# Altium footprint library AIWAC-TF_CARD-V02.PcbLib: 9 footprints
Each footprint in its own frame and in the unit in brackets; x right, y up, seen from the top. Pads: shape width x height; smd on the part's side, far side on the other; paste and mask are expansions set on the pad; w line width, h text height; cw(c..) or ccw(c..) is an arc to the next point about the centre after c.
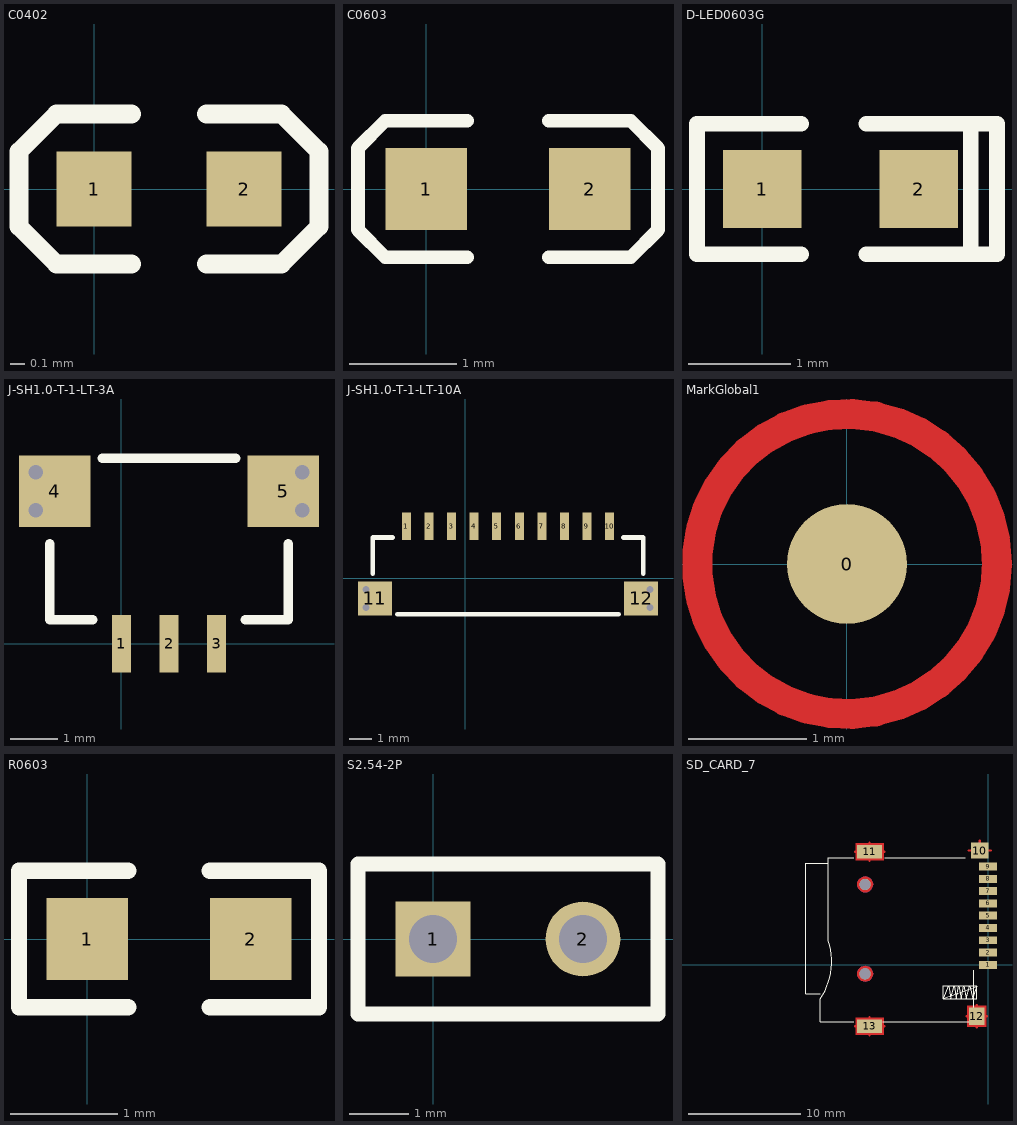
[diagram p0: the footprints below, top view; thin cyan lines are the x and y axes]

## C0402 [mil]
height 10
pads (2):
  rect 20x20 smd: 1(0,0) 2(40,0)
Top Overlay:
  lines w5: 10,-20 -10,-20 -20,-10 -20,10 -10,20 10,20 ; 30,-20 50,-20 60,-10 60,-5 60,10 50,20 30,20
3D body "C0402.STEP": height 19.84, standoff 0.16, extent 0.32,-10 39.69,10.08

## C0603 [mil]
height 12
pads (2):
  rect 30x30 smd: 1(0,0) 2(60,0)
Top Overlay:
  lines w5: 15,-25 -15,-25 -25,-15 -25,15 -15,25 15,25 ; 45,-25 75,-25 85,-15 85,15 75,25 45,25
3D body "C0603.STEP": height 11.89, standoff 0, extent -1.5,-15.5 61.5,16

## D-LED0603G [mil]
height 39.37
pads (2):
  rect 30x30 smd: 1(0,0) 2(60,0)
Top Overlay:
  lines w6: 15,-25 -25,-25 -25,25 15,25 ; 40,-25 90,-25 90,25 40,25 ; 80,-25 80,25
3D body "LED_0603_GREEN.STEP": height 23.62, standoff 0, extent -1.89,-16.5 61.89,15

## J-SH1.0-T-1-LT-3A [mm]
pads (5):
  rect 0.4x1.2 smd: 1(0,0) 2(1,0) 3(2,0)
  rect 1.5x1.5 smd: 4(-1.4,3.2) 5(3.4,3.2)
via 3.8,2.8 diameter 0.508 hole 0.305
via 3.8,3.6 diameter 0.508 hole 0.305
via -1.8,2.8 diameter 0.508 hole 0.305
via -1.8,3.6 diameter 0.508 hole 0.305
Top Overlay:
  lines w0.2: -1.5,2.1 -1.5,0.5 -0.6,0.5 ; -0.4,3.9 2.4,3.9 ; 2.6,0.5 3.5,0.5 3.5,2.1

## J-SH1.0-T-1-LT-10A [mm] "接插件SH1.0-T-1-LT-10A，A33TF卡槽"
pads (12):
  rect 0.4x1.2 smd: 1(-2.6,2.3) 2(-1.6,2.3) 3(-0.6,2.3) 4(0.4,2.3) 5(1.4,2.3) 6(2.4,2.3) 7(3.4,2.3) 8(4.4,2.3) 9(5.4,2.3) 10(6.4,2.3)
  rect 1.5x1.5 smd: 11(-4,-0.9) 12(7.8,-0.9)
via -4.4,-1.3 diameter 0.508 hole 0.305
via -4.4,-0.5 diameter 0.508 hole 0.305
via 8.2,-0.5 diameter 0.508 hole 0.305
via 8.2,-1.3 diameter 0.508 hole 0.305
Top Overlay:
  lines w0.2: -4.1,0.2 -4.1,1.8 -3.2,1.8 ; -3,-1.6 6.8,-1.6 ; 7,1.8 7.9,1.8 7.9,0.2

## MarkGlobal1 [mil]
height 39.37
pads (1):
  round 40 smd: 0(0.1,0.1)
Top Layer:
  circle w10: c0.1,0.1 r50
Top Solder:
  circle w20: c0.1,0.1 r30

## R0603 [mil]
height 12
pads (2):
  rect 30x30 smd: 1(0,0) 2(60,0)
Top Overlay:
  lines w6: 15,-25 -25,-25 -25,25 15,25 ; 45,-25 85,-25 85,25 45,25
3D body "R0603.STEP": height 17.72, standoff 0, extent -0.5,-16 62.5,15.5

## S2.54-2P [mil]
pads (2):
  rect 50x50 hole 32: 1(0,0)
  round 50 hole 32: 2(100,0)
Top Overlay:
  lines w10: -50,-50 -50,50 150,50 150,-50 -50,-50
3D body: height 314.96, standoff -78.74, extent 84,-16 115.37,15.43
3D body: height 314.96, standoff -78.74, extent -16,-16 15.37,15.43
3D body: height 100, standoff 0, extent -50,-50 150,50

## SD_CARD_7 [mil] "This is 9信号的，适用于A33"
pads (15):
  rect 63x28 smd: 1(0,0) 2(0,43.3) 3(0,86.61) 4(0,129.92) 5(0,173.22) 6(0,216.53) 7(0,259.84) 8(0,303.15) 9(0,346.45)
  rect 63x55 smd: 10(-29.37,402.7)
  rect 87x47 smd: 11(-417.32,398.7) 13(-417.32,-216.54)
  rect 55x63 smd: 12(-39.37,-181.11)
  round 39.37 / inner round 60 / far side round 39.37 hole 39.37: " "(-433.07,-31.5) " "(-433.07,283.46)
Top Layer:
  pour cut-out: -367.82,428.2 -367.82,369.2 -466.82,369.2 -466.82,428.2
  pour cut-out: -367.82,-187.04 -367.82,-246.04 -466.82,-246.04 -466.82,-187.04
  pour cut-out: -5.87,-143.61 -5.87,-218.61 -72.87,-218.61 -72.87,-143.61
  pour cut-out: -405.14,283.46 -406.1,290.69 -408.89,297.42 -413.32,303.21 -419.11,307.64 -425.84,310.43 -433.07,311.39 -440.3,310.43 -447.03,307.64 -452.82,303.21 -457.25,297.42 -460.04,290.69 -461,283.46 -460.04,276.23 -457.25,269.5 -452.82,263.71 -447.03,259.28 -440.3,256.49 -433.07,255.53 -425.84,256.49 -419.11,259.28 -413.32,263.71 -408.89,269.5 -406.1,276.23
  pour cut-out: -405.14,-31.5 -406.1,-24.27 -408.89,-17.54 -413.32,-11.75 -419.11,-7.32 -425.84,-4.53 -433.07,-3.57 -440.3,-4.53 -447.03,-7.32 -452.82,-11.75 -457.25,-17.54 -460.04,-24.27 -461,-31.5 -460.04,-38.73 -457.25,-45.46 -452.82,-51.25 -447.03,-55.68 -440.3,-58.47 -433.07,-59.43 -425.84,-58.47 -419.11,-55.68 -413.32,-51.25 -408.89,-45.46 -406.1,-38.73
  lines w6: 0,43.3 0.28,43.58
  lines w8: -468.82,-216.54 -417.32,-216.54 ; -468.82,398.7 -417.32,398.7 ; -417.32,-248.04 -417.32,-216.54 ; -417.32,-185.04 -417.32,-216.54 ; -417.32,367.2 -417.32,398.7 ; -417.32,430.2 -417.32,398.7 ; -365.82,-216.54 -417.32,-216.54 ; -365.82,398.7 -417.32,398.7 ; -74.87,-181.11 -39.37,-181.11 ; -68.87,402.7 -29.37,402.7 ; -39.37,-220.61 -39.37,-181.11 ; -39.37,-141.61 -39.37,-181.11 ; -29.37,438.2 -29.37,402.7 ; -3.87,-181.11 -39.37,-181.11 ; 10.13,402.7 -29.37,402.7
Bottom Layer:
  pour cut-out: -405.14,283.46 -406.1,290.69 -408.89,297.42 -413.32,303.21 -419.11,307.64 -425.84,310.43 -433.07,311.39 -440.3,310.43 -447.03,307.64 -452.82,303.21 -457.25,297.42 -460.04,290.69 -461,283.46 -460.04,276.23 -457.25,269.5 -452.82,263.71 -447.03,259.28 -440.3,256.49 -433.07,255.53 -425.84,256.49 -419.11,259.28 -413.32,263.71 -408.89,269.5 -406.1,276.23
  pour cut-out: -405.14,-31.5 -406.1,-24.27 -408.89,-17.54 -413.32,-11.75 -419.11,-7.32 -425.84,-4.53 -433.07,-3.57 -440.3,-4.53 -447.03,-7.32 -452.82,-11.75 -457.25,-17.54 -460.04,-24.27 -461,-31.5 -460.04,-38.73 -457.25,-45.46 -452.82,-51.25 -447.03,-55.68 -440.3,-58.47 -433.07,-59.43 -425.84,-58.47 -419.11,-55.68 -413.32,-51.25 -408.89,-45.46 -406.1,-38.73
Top Overlay:
  lines w3: -590.94,-102.37 -641.73,-102.37 -641.73,358.26 -564.57,358.26 ; -472.44,-200.79 -590.55,-200.79 -590.55,-119.69 ccw(c-788.3,11.01) -562.99,84.64 -562.99,377.95 -472.44,377.95 ; -371.26,-200.79 -51.18,-200.79 -51.18,-19.69 ; -364.01,377.95 -80.55,377.95 ; -157.48,-120.08 -157.48,-72.84 -39.37,-72.84 -39.37,-120.08 -157.48,-120.08 ; -156.3,-118.11 -38.58,-74.81 -53.15,-119.69 -64.57,-73.23 -76.38,-119.69 -86.22,-73.23 -95.27,-119.69 -103.15,-73.23 -111.81,-119.69 -119.29,-73.23 -132.28,-119.69 -138.58,-73.23 -156.3,-118.11
Mechanical 9:
  text "8" at -10,303.15 h23.62
  text "7" at -10,259.84 h23.62
  text "5" at -10,173.22 h23.62
  text "1" at -10,0 h23.62
  text "3" at -10,86.61 h23.62
  text "2" at -10,43.3 h23.62
  text "4" at -10,129.92 h23.62
  text "6" at -10,216.53 h23.62
  text "9" at -10,346.45 h23.62